# Altium footprint library QFP.PcbLib: 2 footprints
Each footprint in its own frame and in the unit in brackets; x right, y up, seen from the top. Pads: shape width x height; smd on the part's side, far side on the other; paste and mask are expansions set on the pad; w line width, h text height; cw(c..) or ccw(c..) is an arc to the next point about the centre after c.
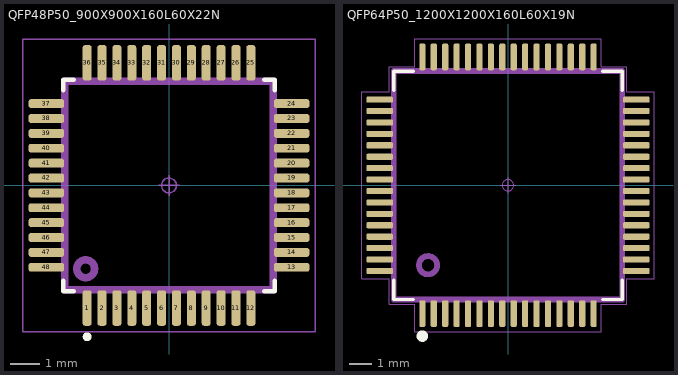
[diagram p0: the footprints below, top view; thin cyan lines are the x and y axes]

## QFP48P50_900X900X160L60X22N [mm] "Quad Flat Pack (QFP), 0.50 mm pitch; square, 12 pin X 12 pin, 7.00 mm L X 7.00 mm W X 1.60 mm H body"
height 1.6
pads (48):
  rrect53% 0.3x1.19 smd: 1(-2.75,-4.12) 2(-2.25,-4.12) 3(-1.75,-4.12) 4(-1.25,-4.12) 5(-0.75,-4.12) 6(-0.25,-4.12) 7(0.25,-4.12) 8(0.75,-4.12) 9(1.25,-4.12) 10(1.75,-4.12) 11(2.25,-4.12) 12(2.75,-4.12) 25(2.75,4.12) 26(2.25,4.12) 27(1.75,4.12) 28(1.25,4.12) 29(0.75,4.12) 30(0.25,4.12) 31(-0.25,4.12) 32(-0.75,4.12) 33(-1.25,4.12) 34(-1.75,4.12) 35(-2.25,4.12) 36(-2.75,4.12)
  rrect53% 1.19x0.3 smd: 13(4.12,-2.75) 14(4.12,-2.25) 15(4.12,-1.75) 16(4.12,-1.25) 17(4.12,-0.75) 18(4.12,-0.25) 19(4.12,0.25) 20(4.12,0.75) 21(4.12,1.25) 22(4.12,1.75) 23(4.12,2.25) 24(4.12,2.75) 37(-4.12,2.75) 38(-4.12,2.25) 39(-4.12,1.75) 40(-4.12,1.25) 41(-4.12,0.75) 42(-4.12,0.25) 43(-4.12,-0.25) 44(-4.12,-0.75) 45(-4.12,-1.25) 46(-4.12,-1.75) 47(-4.12,-2.25) 48(-4.12,-2.75)
Top Overlay:
  circle w0.15: c-2.75,-5.085 r0.075
  lines w0.15: -3.55,-3.2 -3.55,-3.55 -3.2,-3.55 ; -3.55,3.2 -3.55,3.55 -3.2,3.55 ; 3.2,-3.55 3.55,-3.55 3.55,-3.2 ; 3.2,3.55 3.55,3.55 3.55,3.2
Top Assembly:
  circle w0.25: c-2.8,-2.8 r0.3
  lines w0.25: -3.5,-3.5 -3.5,3.5 3.5,3.5 3.5,-3.5 -3.5,-3.5
  text ".Designator" at -3.378,-0.339 h1.5
Top Courtyard:
  circle w0.05: c0,0 r0.25
  lines w0.05: -0.35,0 0.35,0 ; 0,-0.35 0,0.35 ; -4.92,-4.92 -4.92,4.92 4.92,4.92 4.92,-4.92 -4.92,-4.92
3D body "QFP48P50_900X900X160L60X22.STEP": height 1.6, standoff 0, extent -4.5,-4.5 4.5,4.5

## QFP64P50_1200X1200X160L60X19N [mm] "Quad Flat Pack (QFP), 0.50 mm pitch; square, 16 pin X 16 pin, 10.00 mm L X 10.00 mm W X 1.60 mm H body"
height 1.6
pads (64):
  rrect52% 0.27x1.17 smd: 1(-3.75,-5.62) 2(-3.25,-5.62) 3(-2.75,-5.62) 4(-2.25,-5.62) 5(-1.75,-5.62) 6(-1.25,-5.62) 7(-0.75,-5.62) 8(-0.25,-5.62) 9(0.25,-5.62) 10(0.75,-5.62) 11(1.25,-5.62) 12(1.75,-5.62) 13(2.25,-5.62) 14(2.75,-5.62) 15(3.25,-5.62) 16(3.75,-5.62) 33(3.75,5.62) 34(3.25,5.62) 35(2.75,5.62) 36(2.25,5.62) 37(1.75,5.62) 38(1.25,5.62) 39(0.75,5.62) 40(0.25,5.62) 41(-0.25,5.62) 42(-0.75,5.62) 43(-1.25,5.62) 44(-1.75,5.62) 45(-2.25,5.62) 46(-2.75,5.62) 47(-3.25,5.62) 48(-3.75,5.62)
  rrect52% 1.17x0.27 smd: 17(5.62,-3.75) 18(5.62,-3.25) 19(5.62,-2.75) 20(5.62,-2.25) 21(5.62,-1.75) 22(5.62,-1.25) 23(5.62,-0.75) 24(5.62,-0.25) 25(5.62,0.25) 26(5.62,0.75) 27(5.62,1.25) 28(5.62,1.75) 29(5.62,2.25) 30(5.62,2.75) 31(5.62,3.25) 32(5.62,3.75) 49(-5.62,3.75) 50(-5.62,3.25) 51(-5.62,2.75) 52(-5.62,2.25) 53(-5.62,1.75) 54(-5.62,1.25) 55(-5.62,0.75) 56(-5.62,0.25) 57(-5.62,-0.25) 58(-5.62,-0.75) 59(-5.62,-1.25) 60(-5.62,-1.75) 61(-5.62,-2.25) 62(-5.62,-2.75) 63(-5.62,-3.25) 64(-5.62,-3.75)
Top Overlay:
  circle w0.25: c-3.75,-6.605 r0.125
  lines w0.15: -5,-4.15 -5,-5 -4.15,-5 ; -5,4.15 -5,5 -4.15,5 ; 4.15,-5 5,-5 5,-4.15 ; 4.15,5 5,5 5,4.15
Top Assembly:
  circle w0.25: c-3.5,-3.5 r0.4
  lines w0.25: -5,-5 5,-5 5,5 -5,5 -5,-5
  text ".Designator" at -4.191,-0.254 h2
Top Courtyard:
  circle w0.05: c0,0 r0.25
  lines w0.05: -0.35,0 0.35,0 ; 0,-0.35 0,0.35 ; -6.405,-4.085 -5.2,-4.085 -5.2,-5.2 -4.085,-5.2 -4.085,-6.405 4.085,-6.405 4.085,-5.2 5.2,-5.2 5.2,-4.085 6.405,-4.085 6.405,4.085 5.2,4.085 5.2,5.2 4.085,5.2 4.085,6.405 -4.085,6.405 -4.085,5.2 -5.2,5.2 -5.2,4.085 -6.405,4.085 -6.405,-4.085
3D body "QFP64P50_1200X1200X160L60X19.STEP": height 1.6, standoff 0, extent -6,-6 6,6